# EAGLE library part ATECC608(SOIC8) (library Adelino-Misc)
ATECC608
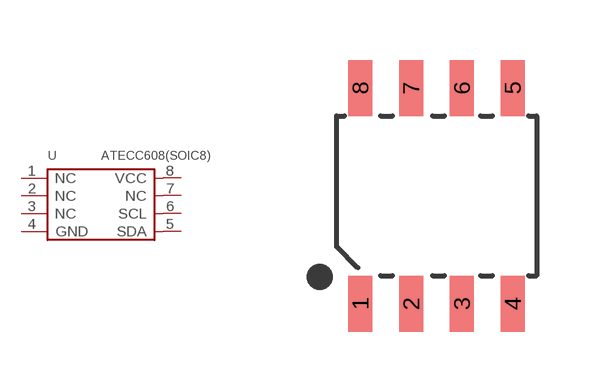
[diagram p0: symbol with the pads of SOIC8-1.27-5X4MM; footprint SOIC8-1.27-5X4MM]

Designator prefix U

## ATECC608(SOIC8) (MPN: ATECC608; VALUE: ATECC608-SOIC8)  [SOIC8-1.27-5X4MM]
1  NC1  nc
2  NC2  nc
3  NC3  nc
4  GND  sup
5  SDA
6  SCL  in
7  NC4  nc
8  VCC  sup

## Footprint SOIC8-1.27-5X4MM (pad centres in mm)
smd 0.6 x 1.4: 1 -1.905,-2.7; 2 -0.635,-2.7; 3 0.635,-2.7; 4 1.905,-2.7; 5 1.905,2.7; 6 0.635,2.7; 7 -0.635,2.7; 8 -1.905,2.7